# Altium schematic symbol library Connector - SD.SchLib: 3 symbols
Pins are listed as number, name and electrical type; pins without a type are passive.

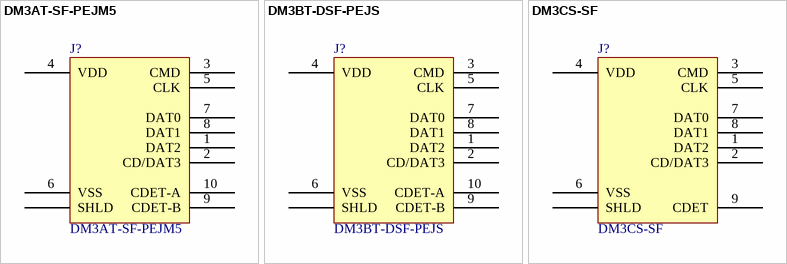
[diagram p0: symbols DM3AT-SF-PEJM5 to DM3CS-SF]

## DM3AT-SF-PEJM5
designator J?
CONN MICRO SD CARD PUSH-PUSH R/A; Manufacturer: Hirose Electric Co Ltd; Number of Positions: 10 (8 + 2); Connector Type: Connector and Ejector; Part Number: DM3AT-SF-PEJM5; PartId: 9287; Supplier 1: Digi-Key; Supplier Part Number 1: HR1964TR-ND; ComponentLink1Description: Datasheet; ComponentLink1URL: http://www.hirose.co.jp/cataloge_hp/e60900232.pdf; ComponentLink2Description: Digi-Key Listing; ComponentLink2URL: http://www.digikey.ca/product-detail/en/DM3AT-SF-PEJM5/HR1964TR-ND/2533565; Price: 2.1114; Type: Connector and Ejector; Mounting Type: Surface Mount, Right Angle; Features: Switch; Contact Finish: Gold
footprint HIROSE DM3AT-SF-PEJM5
pins: 1 DAT2, 2 CD/DAT3, 3 CMD, 4 VDD, 5 CLK, 6 VSS, 7 DAT0, 8 DAT1, 9 CDET-B, 10 CDET-A, S SHLD

## DM3BT-DSF-PEJS
designator J?
CONN MICRO SD CARD PUSH-PUSH R/A; Manufacturer: Hirose Electric Co Ltd; Number of Positions: 10 (8 + 2); Connector Type: Connector and Ejector; Part Number: DM3BT-DSF-PEJS; PartId: 9288; Supplier 1: Digi-Key; Supplier Part Number 1: HR1942TR-ND; ComponentLink1Description: Datasheet; ComponentLink1URL: http://www.hirose.co.jp/cataloge_hp/e60900232.pdf; ComponentLink2Description: Digi-Key Listing; ComponentLink2URL: http://www.digikey.ca/product-detail/en/DM3BT-DSF-PEJS/HR1942TR-ND/1982749; Price: 1.9262; Type: Connector and Ejector; Mounting Type: Surface Mount, Right Angle; Features: Switch; Contact Finish: Gold
footprint HIROSE DM3BT-DSF-PEJS
pins: 1 DAT2, 2 CD/DAT3, 3 CMD, 4 VDD, 5 CLK, 6 VSS, 7 DAT0, 8 DAT1, 9 CDET-B, 10 CDET-A, S SHLD

## DM3CS-SF
designator J?
CONN MICRO SD CARD HINGED TYPE; Manufacturer: Hirose Electric Co Ltd; Number of Positions: 10 (8 + 2); Connector Type: Connector and Ejector; Part Number: DM3CS-SF; PartId: 21196; Supplier 1: Digi-Key; Supplier Part Number 1: HR1972CT-ND; ComponentLink1Description: Datasheet; ComponentLink1URL: https://www.hirose.com/product/en/download_file/key_name/DM3/category/Catalog/doc_file_id/49662/?file_category_id=4&item_id=195&is_series=1; ComponentLink2Description: Digi-Key Listing; ComponentLink2URL: http://www.digikey.com/product-detail/en/hirose-electric-co-ltd/DM3CS-SF/HR1972CT-ND/2602740; Price: 1.66; Type: Connector and Ejector; Mounting Type: Surface Mount, Right Angle; Features: Switch; Contact Finish: Gold
footprint HIROSE DM3CS
pins: 1 DAT2, 2 CD/DAT3, 3 CMD, 4 VDD, 5 CLK, 6 VSS, 7 DAT0, 8 DAT1, 9 CDET, S SHLD